# EAGLE library part LTC2451 (library linear)
Linear LTC2451 Single input, single sided, 16-bit ADC to I2C Datasheet <https://cds.linear.com/docs/en/datasheet/2451fg.pdf>
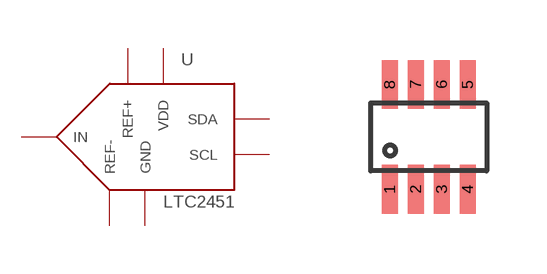
[diagram p325: symbol with the pads of TSOT23-8; footprint TSOT23-8]

Designator prefix -

## LTC2451TS8  [TSOT23-8]
1  GND
2  REF-
3  REF+
4  VDD
5  GND
6  IN
7  SCL
8  SDA

## Footprint TSOT23-8 (pad centres in mm)
smd 0.4 x 1.22: 1 -0.975,-1.31; 2 -0.325,-1.31; 3 0.325,-1.31; 4 0.975,-1.31; 5 0.975,1.31; 6 0.325,1.31; 7 -0.325,1.31; 8 -0.975,1.31